# Altium footprint library VioletofSun.PcbLib: 319 footprints (part 2 of 20)
Each footprint in its own frame and in the unit in brackets; x right, y up, seen from the top. Pads: shape width x height; smd on the part's side, far side on the other; paste and mask are expansions set on the pad; w line width, h text height; cw(c..) or ccw(c..) is an arc to the next point about the centre after c.
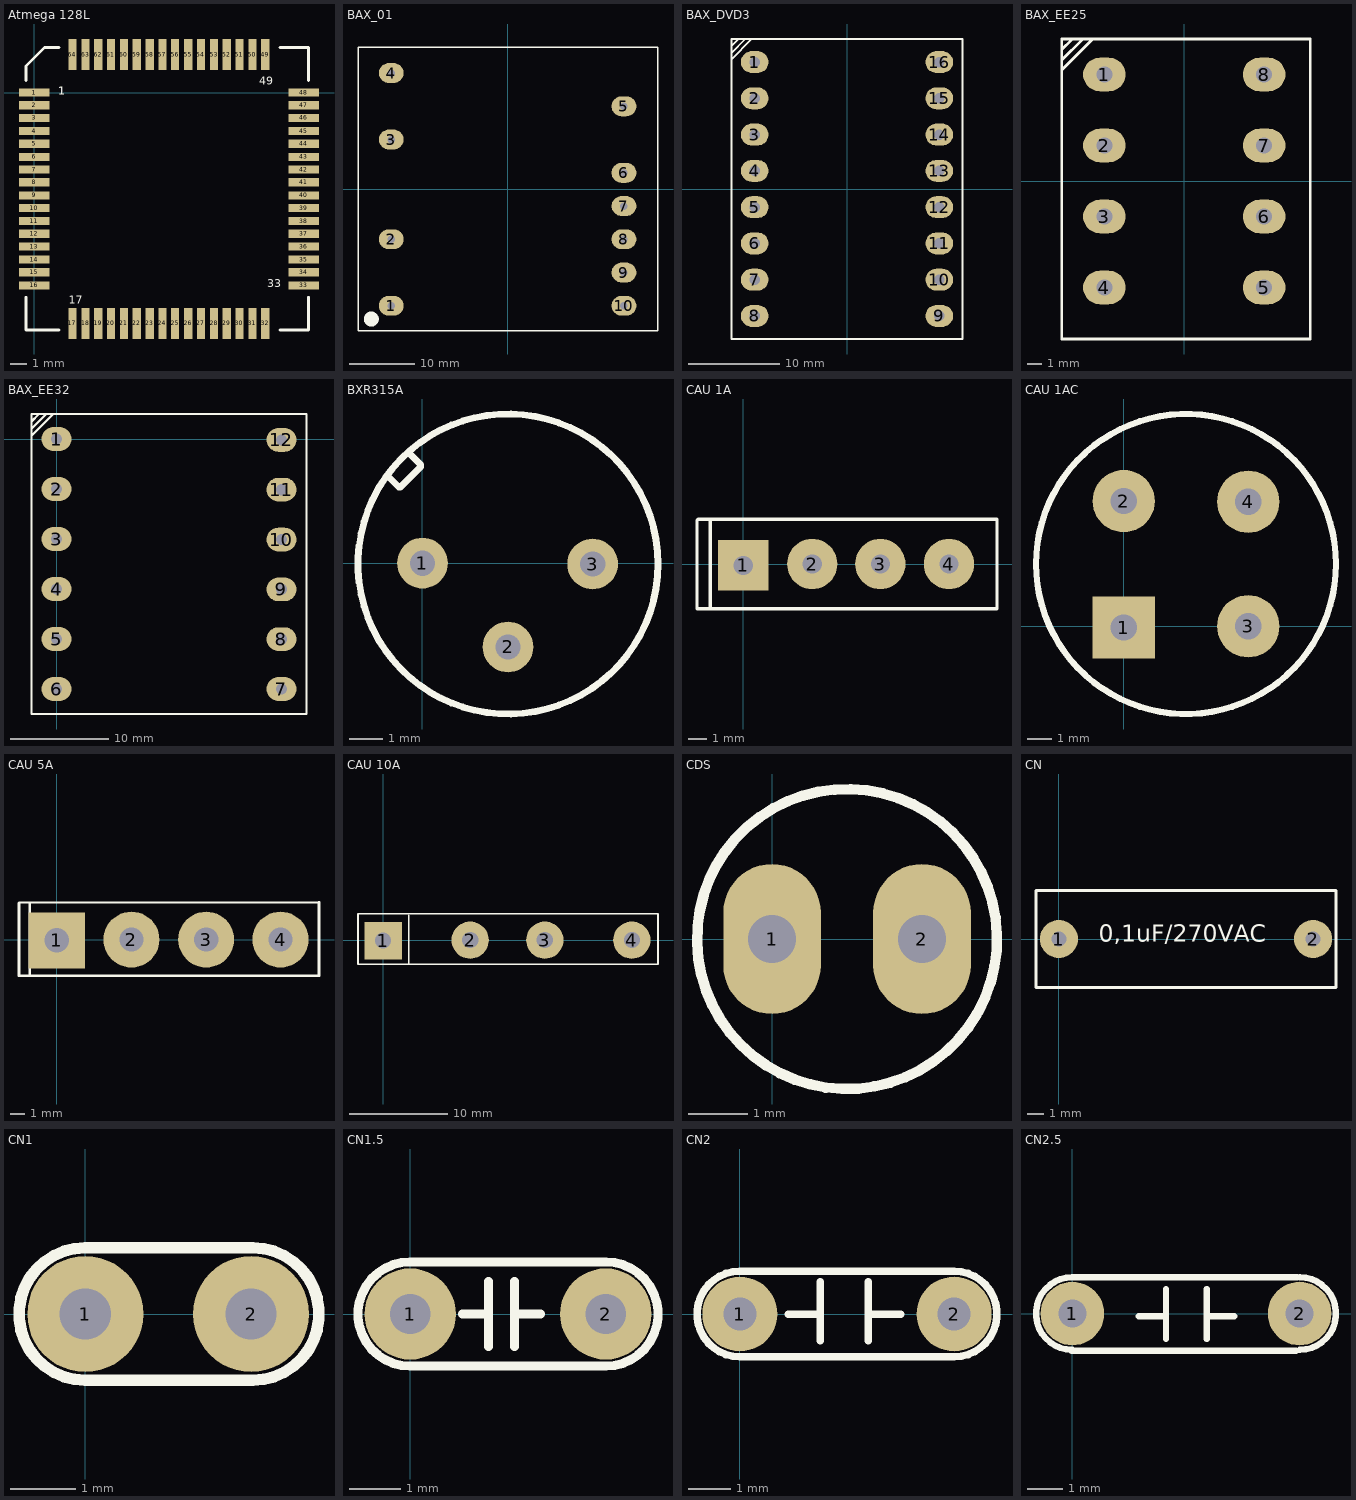
[diagram p1: the footprints below, top view; thin cyan lines are the x and y axes]

## Atmega 128L [mil] "Atmega 128L, 64 pin SMT"
height 100
pads (64):
  rect 75x20 smd: 1(0,0) 2(0,-31) 3(0,-62) 4(0,-94) 5(0,-125) 6(0,-157) 7(0,-188) 8(0,-219) 9(0,-251) 10(0,-282) 11(0,-314) 12(0,-345) 13(0,-376) 14(0,-408) 15(0,-439) 16(0,-471) 33(658,-471) 34(658,-439) 35(658,-408) 36(658,-376) 37(658,-345) 38(658,-314) 39(658,-282) 40(658,-251) 41(658,-219) 42(658,-188) 43(658,-157) 44(658,-125) 45(658,-94) 46(658,-62) 47(658,-31) 48(658,0)
  rect 20x75 smd: 17(93,-564) 18(125,-564) 19(156,-564) 20(187,-564) 21(219,-564) 22(250,-564) 23(282,-564) 24(313,-564) 25(344,-564) 26(376,-564) 27(407,-564) 28(439,-564) 29(470,-564) 30(501,-564) 31(533,-564) 32(564,-564) 49(564,93) 50(533,93) 51(501,93) 52(470,93) 53(439,93) 54(407,93) 55(376,93) 56(344,93) 57(313,93) 58(282,93) 59(250,93) 60(219,93) 61(187,93) 62(156,93) 63(125,93) 64(93,93)
Top Overlay:
  lines w7: -20,-500 -20,-580 60,-580 ; -20,30 -20,65 25,110 60,110 ; 600,-580 670,-580 670,-500 ; 600,110 670,110 670,30
  text "1" at 59,-5.5 h20
  text "1" at 59,-5.5 h20
  text "49" at 549,19.5 h20
  text "17" at 84,-515.5 h20
  text "33" at 569,-475.5 h20

## BAX_01 [mil] "Bien ap xung cho nguon T9AT"
pads (10):
  oval 150x120 hole 45: 1(-700,-700) 2(-700,-300) 3(-700,300) 4(-700,700) 5(700,500) 6(700,100) 7(700,-100) 8(700,-300) 9(700,-500) 10(700,-700)
Top Overlay:
  circle w50: c-820,-780 r20
  lines w8: -900,-850 905,-850 905,855 -900,855 -900,-850

## BAX_DVD3 [mil] "Bien ap xung DVD3"
pads (16):
  oval 120x95 hole 45: 1(-400,550) 2(-400,392.86) 3(-400,235.71) 4(-400,78.57) 5(-400,-78.57) 6(-400,-235.71) 7(-400,-392.86) 8(-400,-550) 9(400,-550) 10(400,-392.86) 11(400,-235.71) 12(400,-78.57) 13(400,78.57) 14(400,235.71) 15(400,392.86) 16(400,550)
Top Overlay:
  lines w8: -500,563 -414,649 ; -500,589 -500,591 -442,649 ; -500,618 -500,620 -471,649 ; -500,-650 500,-650 500,650 490,650 -500,650 -500,-650

## BAX_EE25 [mil] "EE25"
pads (8):
  oval 120x95 hole 45: 1(-225,300) 2(-225,100) 3(-225,-100) 4(-225,-300) 5(225,-300) 6(225,-100) 7(225,100) 8(225,300)
Top Overlay:
  lines w8: -345,313 -259,399 ; -345,339 -345,341 -287,399 ; -345,368 -345,370 -316,399 ; -345,-445 -345,400 355,400 355,-445 -345,-445

## BAX_EE32 [mil] "EE32"
pads (12):
  oval 120x95 hole 45: 1(0,0) 2(0,-200) 3(0,-400) 4(0,-600) 5(0,-800) 6(0,-1000) 7(900,-1000) 8(900,-800.71) 9(900,-601.43) 10(900,-402.14) 11(900,-202.86) 12(900,-3.57)
Top Overlay:
  lines w8: -100,13 -14,99 ; -100,39 -100,41 -42,99 ; -100,68 -100,70 -71,99 ; -100,-1100 -100,100 1000,100 1000,-1100 -100,-1100

## BXR315A [mil] "Xtal for RF"
pads (3):
  round 60 hole 30: 1(0,0) 2(101,-99) 3(201,-1)
Top Overlay:
  circle w8: c101,-1 r177.17
  lines w8: -41,103 -28,90 -26,90 -2,114 -2,116 -15,129

## CAU 1A [mil] "CAU 1A DET"
height 800
pads (4):
  rect 110x110 hole 42: 1(0,-2)
  round 110 hole 42: 2(151,1) 3(300,1) 4(450,1)
Top Overlay:
  lines w7: -72,-95 -72,99 ; -101,-97 555,-97 555,99 -99,99 -101,97 -101,-97
3D body: height 502.76, standoff -450, extent -61.99,-87.24 511.99,110

## CAU 1AC [mil] "CAU 1A TRON"
height 800
pads (4):
  rect 100x100 hole 42: 1(0,-2)
  round 100 hole 42: 2(0,201) 3(200,0) 4(200,200)
Top Overlay:
  circle w10: c100,100 r240.88

## CAU 5A [mil] "CAU 5A DET"
height 800
pads (4):
  rect 150x150 hole 65: 1(0,-2)
  round 150 hole 65: 2(200,0) 3(400,0) 4(599,0)
Top Overlay:
  lines w7: -72,-95 -72,99 ; -101,-97 702,-97 702,100 -99,99 -101,97 -101,-97
3D body: height 940.16, standoff -502.14, extent -133.98,-85 743.98,63.03

## CAU 10A [mil] "CAU 10A det"
height 800
pads (4):
  rect 150x150 hole 65: 1(0,-2)
  round 150 hole 65: 2(350,0) 3(650,0) 4(1000,0)
Top Overlay:
  lines w7: 103,-95 103,99 ; -101,-97 1105,-97 1105,106.36 -101,104.86 -101,-97

## CDS [mil] "QUANG TRO"
height 300
pads (2):
  oval 65x100 hole 32: 1(0,0) 2(100,0)
Top Overlay:
  lines w7: 136.62,-49.97 cw(c50,0) 137.42,-48.56

## CN [mil] "Tu loc 220"
height 100
pads (2):
  round 90 hole 35: 1(0,0) 2(600,0)
Top Overlay:
  lines w7: -54,-115 -54,115 654,115 654,-115 -54,-115
  text "0,1uF/270VAC" at 94,-21 h70

## CN1 [mil]
height 200
pads (2):
  round 70 hole 31: 1(0,0) 2(100,0)
Top Overlay:
  lines w7: 100,-40 0,-40 cw(c0,0) 0,40 100,40 ; 101,-40 ccw(c101,0) 101,40
3D body: height 265, standoff -46.85, extent -59.93,-30 169.93,36.79

## CN1.5 [mil]
height 200
pads (2):
  round 70 hole 31: 1(0,0) 2(150,0)
Top Overlay:
  lines w7: 40,0 60,0 ; 60,-25 60,25 ; 80,-25 80,25 ; 80,0 100,0 ; 0,-40 cw(c0,0) 0,40 150,40 cw(c150,0) 150,-40 0,-40

## CN2 [mil]
height 200
pads (2):
  round 70 hole 31: 1(0,0) 2(200,0)
Top Overlay:
  lines w7: 45,0 75,0 ; 75,-25 75,30 ; 120,-25 120,30 ; 120,0 150,0 ; 0,-40 cw(c0,0) 0,40 200,40 cw(c200,0) 200,-40 0,-40

## CN2.5 [mil] "Tu pin to pin 250mil"
height 200
pads (2):
  round 70 hole 31: 1(0,0) 2(250,0)
Top Overlay:
  lines w7: -1,-41 246,-41 ; 0,-40 cw(c0,0) 0,40 247,40 ; 73,-3 103,-3 ; 103,-28 103,27 ; 148,-28 148,27 ; 148,-3 178,-3 ; 250,-40 ccw(c250,0) 250,40